# Altium footprint library Breadboard.PcbLib: 1 footprints
Each footprint in its own frame and in the unit in brackets; x right, y up, seen from the top. Pads: shape width x height; smd on the part's side, far side on the other; paste and mask are expansions set on the pad; w line width, h text height; cw(c..) or ccw(c..) is an arc to the next point about the centre after c.
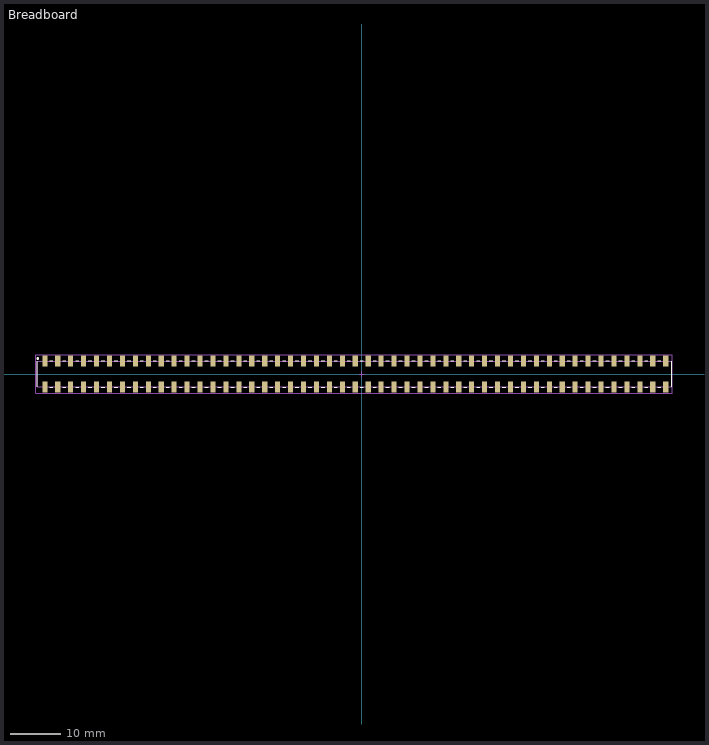
[diagram p0: the footprint, top view; thin cyan lines are the x and y axes]

## Breadboard [mm] "98 pins Bredboard 2.54mm"
height 7.45
pads (98):
  rect 1x2.2 smd: 1(-62.23,2.54) 2(-62.23,-2.54) 3(-59.69,2.54) 4(-59.69,-2.54) 5(-57.15,2.54) 6(-57.15,-2.54) 7(-54.61,2.54) 8(-54.61,-2.54) 9(-52.07,2.54) 10(-52.07,-2.54) 11(-49.53,2.54) 12(-49.53,-2.54) 13(-46.99,2.54) 14(-46.99,-2.54) 15(-44.45,2.54) 16(-44.45,-2.54) 17(-41.91,2.54) 18(-41.91,-2.54) 19(-39.37,2.54) 20(-39.37,-2.54) 21(-36.83,2.54) 22(-36.83,-2.54) 23(-34.29,2.54) 24(-34.29,-2.54) 25(-31.75,2.54) 26(-31.75,-2.54) 27(-29.21,2.54) 28(-29.21,-2.54) 29(-26.67,2.54) 30(-26.67,-2.54) 31(-24.13,2.54) 32(-24.13,-2.54) 33(-21.59,2.54) 34(-21.59,-2.54) 35(-19.05,2.54) 36(-19.05,-2.54) 37(-16.51,2.54) 38(-16.51,-2.54) 39(-13.97,2.54) 40(-13.97,-2.54) 41(-11.43,2.54) 42(-11.43,-2.54) 43(-8.89,2.54) 44(-8.89,-2.54) 45(-6.35,2.54) 46(-6.35,-2.54) 47(-3.81,2.54) 48(-3.81,-2.54) 49(-1.27,2.54) 50(-1.27,-2.54) 51(1.27,2.54) 52(1.27,-2.54) 53(3.81,2.54) 54(3.81,-2.54) 55(6.35,2.54) 56(6.35,-2.54) 57(8.89,2.54) 58(8.89,-2.54) 59(11.43,2.54) 60(11.43,-2.54) 61(13.97,2.54) 62(13.97,-2.54) 63(16.51,2.54) 64(16.51,-2.54) 65(19.05,2.54) 66(19.05,-2.54) 67(21.59,2.54) 68(21.59,-2.54) 69(24.13,2.54) 70(24.13,-2.54) 71(26.67,2.54) 72(26.67,-2.54) 73(29.21,2.54) 74(29.21,-2.54) 75(31.75,2.54) 76(31.75,-2.54) 77(34.29,2.54) 78(34.29,-2.54) 79(36.83,2.54) 80(36.83,-2.54) 81(39.37,2.54) 82(39.37,-2.54) 83(41.91,2.54) 84(41.91,-2.54) 85(44.45,2.54) 86(44.45,-2.54) 87(46.99,2.54) 88(46.99,-2.54) 89(49.53,2.54) 90(49.53,-2.54) 91(52.07,2.54) 92(52.07,-2.54) 93(54.61,2.54) 94(54.61,-2.54) 95(57.15,2.54) 96(57.15,-2.54) 97(59.69,2.54) 98(59.69,-2.54)
Top Overlay:
  circle w0.25: c-63.625,3.048 r0.125
  lines w0.127: -63.75,-2.54 -63.75,2.54 ; 60.86,-2.54 60.86,2.54
  lines w0.2: -61.277,-2.6 -60.642,-2.6 ; -61.277,2.6 -60.642,2.6 ; -58.737,-2.6 -58.102,-2.6 ; -58.737,2.6 -58.102,2.6 ; -56.197,-2.6 -55.562,-2.6 ; -56.197,2.6 -55.562,2.6 ; -53.657,-2.6 -53.023,-2.6 ; -53.657,2.6 -53.023,2.6 ; -51.117,-2.6 -50.482,-2.6 ; -51.117,2.6 -50.482,2.6 ; -48.578,-2.6 -47.942,-2.6 ; -48.578,2.6 -47.942,2.6 ; -46.038,-2.6 -45.402,-2.6 ; -46.038,2.6 -45.402,2.6 ; -43.497,-2.6 -42.862,-2.6 ; -43.497,2.6 -42.862,2.6 ; -40.957,-2.6 -40.322,-2.6 ; -40.957,2.6 -40.322,2.6 ; -38.417,-2.6 -37.782,-2.6 ; -38.417,2.6 -37.782,2.6 ; -35.877,-2.6 -35.242,-2.6 ; -35.877,2.6 -35.242,2.6 ; -33.337,-2.6 -32.703,-2.6 ; -33.337,2.6 -32.703,2.6 ; -30.797,-2.6 -30.162,-2.6 ; -30.797,2.6 -30.162,2.6 ; -28.258,-2.6 -27.622,-2.6 ; -28.258,2.6 -27.622,2.6 ; -25.717,-2.6 -25.082,-2.6 ; -25.717,2.6 -25.082,2.6 ; -23.177,-2.6 -22.543,-2.6 ; -23.177,2.6 -22.543,2.6 ; -20.637,-2.6 -20.002,-2.6 ; -20.637,2.6 -20.002,2.6 ; -18.098,-2.6 -17.462,-2.6 ; -18.098,2.6 -17.462,2.6 ; -15.557,-2.6 -14.922,-2.6 ; -15.557,2.6 -14.922,2.6 ; -13.018,-2.6 -12.383,-2.6 ; -13.018,2.6 -12.383,2.6 ; -10.477,-2.6 -9.842,-2.6 ; -10.477,2.6 -9.842,2.6 ; -7.938,-2.6 -7.302,-2.6 ; -7.938,2.6 -7.302,2.6 ; -5.397,-2.6 -4.763,-2.6 ; -5.397,2.6 -4.763,2.6 ; -2.857,-2.6 -2.222,-2.6 ; -2.857,2.6 -2.222,2.6 ; -0.318,-2.6 0.318,-2.6 ; -0.318,2.6 0.318,2.6 ; 2.222,-2.6 2.857,-2.6 ; 2.222,2.6 2.857,2.6 ; 4.763,-2.6 5.397,-2.6 ; 4.763,2.6 5.397,2.6 ; 7.302,-2.6 7.938,-2.6 ; 7.302,2.6 7.938,2.6 ; 9.842,-2.6 10.477,-2.6 ; 9.842,2.6 10.477,2.6 ; 12.383,-2.6 13.018,-2.6 ; 12.383,2.6 13.018,2.6 ; 14.922,-2.6 15.557,-2.6 ; 14.922,2.6 15.557,2.6 ; 17.462,-2.6 18.098,-2.6 ; 17.462,2.6 18.098,2.6 ; 20.002,-2.6 20.637,-2.6 ; 20.002,2.6 20.637,2.6 ; 22.543,-2.6 23.177,-2.6 ; 22.543,2.6 23.177,2.6 ; 25.082,-2.6 25.717,-2.6 ; 25.082,2.6 25.717,2.6 ; 27.622,-2.6 28.258,-2.6 ; 27.622,2.6 28.258,2.6 ; 30.162,-2.6 30.797,-2.6 ; 30.162,2.6 30.797,2.6 ; 32.703,-2.6 33.337,-2.6 ; 32.703,2.6 33.337,2.6 ; 35.242,-2.6 35.877,-2.6 ; 35.242,2.6 35.877,2.6 ; 37.782,-2.6 38.417,-2.6 ; 37.782,2.6 38.417,2.6 ; 40.322,-2.6 40.957,-2.6 ; 40.322,2.6 40.957,2.6 ; 42.862,-2.6 43.497,-2.6 ; 42.862,2.6 43.497,2.6 ; 45.402,-2.6 46.038,-2.6 ; 45.402,2.6 46.038,2.6 ; 47.942,-2.6 48.578,-2.6 ; 47.942,2.6 48.578,2.6 ; 50.482,-2.6 51.117,-2.6 ; 50.482,2.6 51.117,2.6 ; 53.023,-2.6 53.657,-2.6 ; 53.023,2.6 53.657,2.6 ; 55.562,-2.6 56.197,-2.6 ; 55.562,2.6 56.197,2.6 ; 58.102,-2.6 58.737,-2.6 ; 58.102,2.6 58.737,2.6
Mechanical 13:
  lines w0.127: 27.94,-2.54 60.86,-2.54 60.86,2.54 27.94,2.54 ; 28.198,-2.54 -63.754,-2.54 -63.754,2.54 28.198,2.54
Mechanical 15:
  lines w0.1: -0.5,0 0.5,0 ; 0,-0.5 0,0.5 ; -64,-3.75 60.96,-3.75 60.96,3.75 -64,3.75 -64,-3.75
3D body "61002621821.stp": height 7.41, standoff -0.04, extent 27.686,-3.35 61.206,3.35
3D body "61007221821.stp": height 7.41, standoff -0.04, extent -63.754,-3.35 28.186,3.35